# EAGLE library part CON-IDC-2X13-2MM (library con-IDC-2mm)
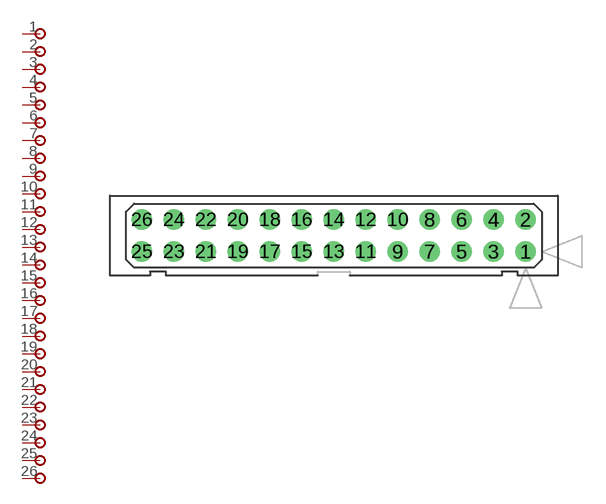
[diagram p0: symbol with the pads of IDC-2X13-2MM; footprint IDC-2X13-2MM]

Designator prefix J; gates 1=PIN 2=PIN 3=PIN 4=PIN 5=PIN 6=PIN 7=PIN 8=PIN 9=PIN 10=PIN 11=PIN 12=PIN 13=PIN 14=PIN 15=PIN 16=PIN 17=PIN 18=PIN 19=PIN 20=PIN 21=PIN 22=PIN 23=PIN 24=PIN 25=PIN 26=PIN

## CON-IDC-2X13-2MM  [IDC-2X13-2MM]
1  1:P  pas
2  2:P  pas
3  3:P  pas
4  4:P  pas
5  5:P  pas
6  6:P  pas
7  7:P  pas
8  8:P  pas
9  9:P  pas
10  10:P  pas
11  11:P  pas
12  12:P  pas
13  13:P  pas
14  14:P  pas
15  15:P  pas
16  16:P  pas
17  17:P  pas
18  18:P  pas
19  19:P  pas
20  20:P  pas
21  21:P  pas
22  22:P  pas
23  23:P  pas
24  24:P  pas
25  25:P  pas
26  26:P  pas

## Footprint IDC-2X13-2MM (pad centres in mm)
drill 0.8: 1 12,-1; 2 12,1; 3 10,-1; 4 10,1; 5 8,-1; 6 8,1; 7 6,-1; 8 6,1; 9 4,-1; 10 4,1; 11 2,-1; 12 2,1; 13 0,-1; 14 0,1; 15 -2,-1; 16 -2,1; 17 -4,-1; 18 -4,1; 19 -6,-1; 20 -6,1; 21 -8,-1; 22 -8,1; 23 -10,-1; 24 -10,1; 25 -12,-1; 26 -12,1